# EAGLE library part OPA2350 (library ICs)
The OPA350 series rail-to-rail CMOS operational amplifiers are optimized for low voltage, single-supply operation. Rail-to-rail input/output, low noise (5nV/√Hz), and high speed operation (38MHz, 22V/μs) make them ideal for driving sampling Analog-to-Digital (A/D) converters. They are also well suited for cell phone PA control loops and video processing (75Ω drive capability) as well as audio and general purpose applications. Single, dual, and quad versions have identical specifications for maximum design flexibility. The OPA350 series operates on a single supply as low as 2.5V with an input common-mode voltage range that extends 300mV below ground and 300mV above the positive supply. Output voltage swing is to within 10mV of the supply rails with a 10kΩ load. Dual and quad designs feature completely independent circuitry for lowest crosstalk and freedom from interaction. The single (OPA350) and dual (OPA2350) come in the miniature MSOP-8 surface mount, SO-8 surface mount, and DIP-8 packages. The quad (OPA4350) packages are the space-saving SSOP-16 surface mount and SO-14 surface mount. All are specified from −40°C to +85°C and operate from −55°C to +150°C.
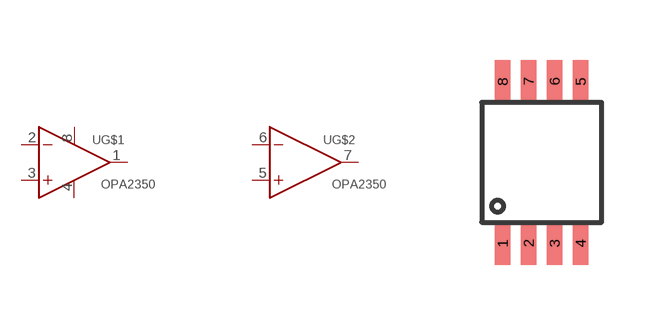
[diagram p3: symbol with the pads of MSOP8; footprint MSOP8]

Designator prefix -; gates G$1=STDOPAMP G$2=STDOPAMP G$3=PWR+-

## OPA2350  [MSOP8]
1  G$1:OUT  out
2  G$1:IN-  in
3  G$1:IN+  in
4  G$3:V-  pwr
5  G$2:IN+  in
6  G$2:IN-  in
7  G$2:OUT  out
8  G$3:V+  pwr

## Footprint MSOP8 (pad centres in mm)
smd 0.38 x 1.075: 1 0.525,-0.525; 2 1.175,-0.525; 3 1.825,-0.525; 4 2.475,-0.525; 5 2.475,3.525; 6 1.825,3.525; 7 1.175,3.525; 8 0.525,3.525